# Altium footprint library TO255P460X1020X2008-3P.PcbLib: 1 footprints
Each footprint in its own frame and in the unit in brackets; x right, y up, seen from the top. Pads: shape width x height; smd on the part's side, far side on the other; paste and mask are expansions set on the pad; w line width, h text height; cw(c..) or ccw(c..) is an arc to the next point about the centre after c.
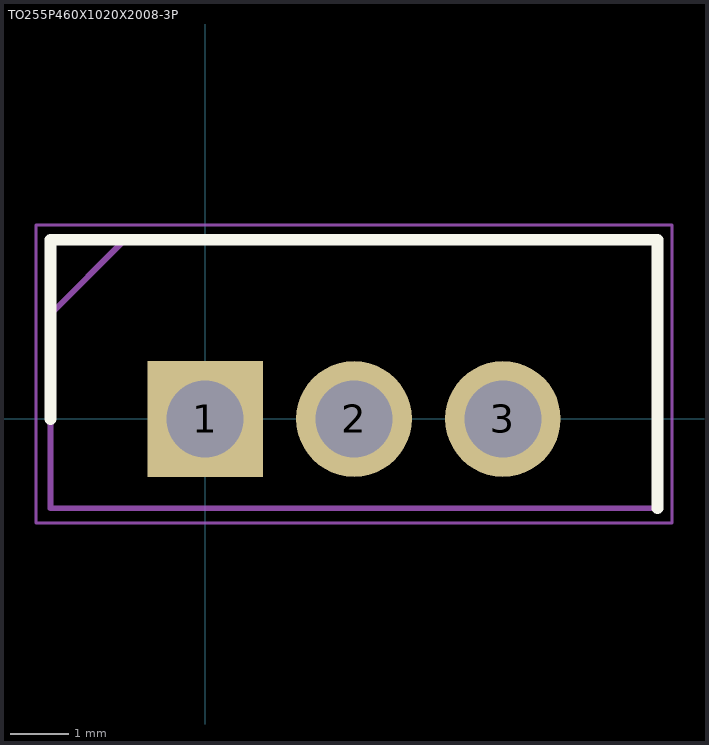
[diagram p0: the footprint, top view; thin cyan lines are the x and y axes]

## TO255P460X1020X2008-3P [mm]
pads (3):
  rect 1.98x1.98 / inner round 1.98 / far side rect 1.98x1.98 hole 1.32: 1(0,0)
  round 1.98 hole 1.32: 2(2.55,0) 3(5.1,0)
Top Overlay:
  lines w0.2: -2.65,0 -2.65,3.07 7.75,3.07 7.75,-1.53
Mechanical 15:
  lines w0.1: -2.65,1.795 -1.375,3.07 ; -2.65,-1.53 7.75,-1.53 7.75,3.07 -2.65,3.07 -2.65,-1.53
Mechanical 20:
  lines w0.05: -2.9,-1.78 8,-1.78 8,3.32 -2.9,3.32 -2.9,-1.78